# Altium schematic symbol library PM-REG-LD1117-SOT3.SchLib: 1 symbol
Pins are listed as number, name and electrical type; pins without a type are passive.

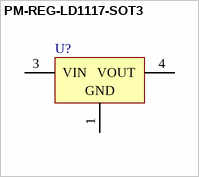
[diagram p0: symbol PM-REG-LD1117-SOT3]

## PM-REG-LD1117-SOT3
designator U?
pins: 1 GND (power), 3 VIN (power), 4 VOUT (power)